# Altium footprint library PcbLib.PcbLib: 15 footprints
Each footprint in its own frame and in the unit in brackets; x right, y up, seen from the top. Pads: shape width x height; smd on the part's side, far side on the other; paste and mask are expansions set on the pad; w line width, h text height; cw(c..) or ccw(c..) is an arc to the next point about the centre after c.
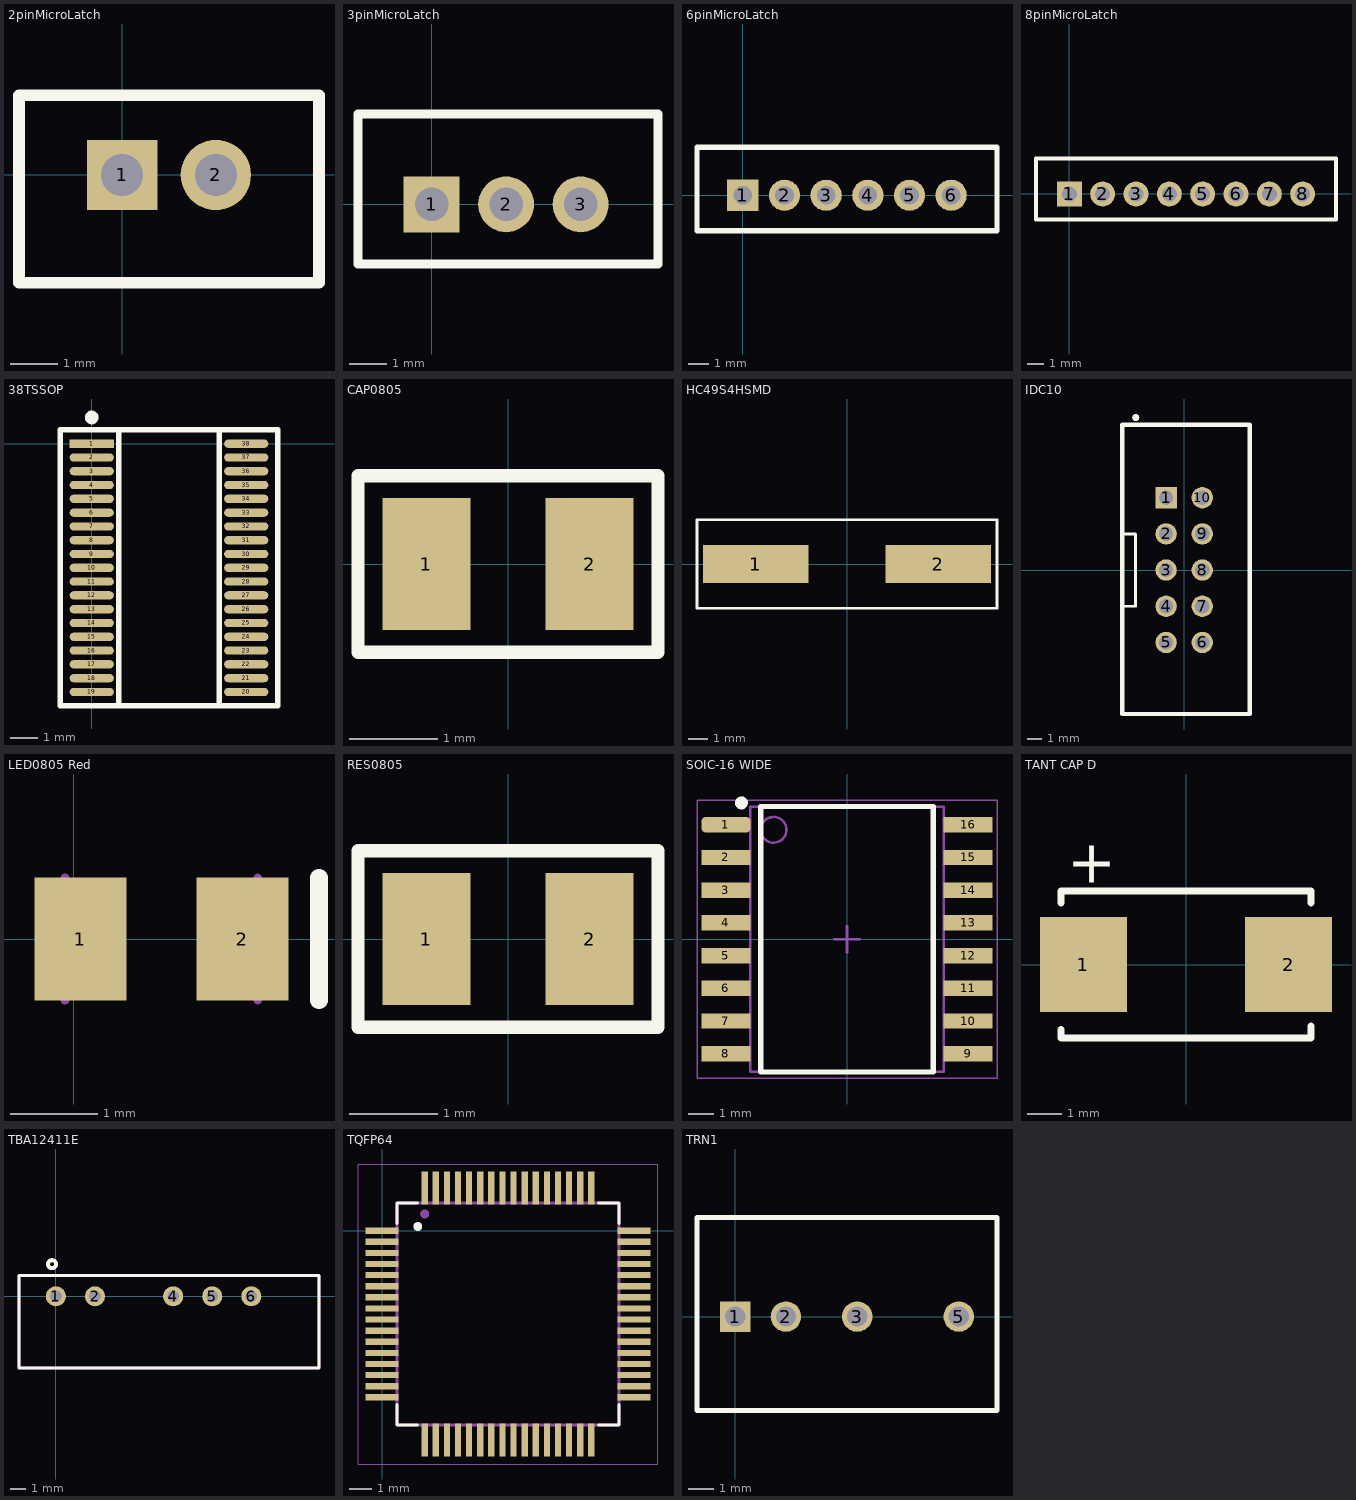
[diagram p0: the footprints below, top view; thin cyan lines are the x and y axes]

## 2pinMicroLatch [mm] "Molex 2mm pitch wire to board"
pads (2):
  rect 1.5x1.5 hole 0.9: 1(0,0)
  round 1.5 hole 0.9: 2(2,0)
Top Overlay:
  lines w0.254: -2.2,-2.3 4.2,-2.3 4.2,1.7 -2.2,1.7 -2.2,-2.3
3D body "532530270.stp": height 5.55, standoff -3.45, extent -2,-2.15 4,1.5

## 3pinMicroLatch [mm] "Molex 2mm pitch wire to board"
pads (3):
  rect 1.5x1.5 hole 0.9: 1(0,0)
  round 1.5 hole 0.9: 2(2,0) 3(4,0)
Top Overlay:
  lines w0.254: -1.975,-1.6 6.075,-1.6 6.075,2.425 -1.975,2.425 -1.975,-1.6
3D body "Micro-Lacth_03_PCB_Header_+_Housing.STEP": height 5.55, standoff -2.45, extent -2.025,-1.525 5.975,2.125

## 6pinMicroLatch [mm] "Molex 2mm pitch wire to board"
pads (6):
  rect 1.5x1.5 hole 0.9: 1(0,0)
  round 1.5 hole 0.9: 2(2,0) 3(4,0) 4(6,0) 5(8,0) 6(10,0)
Top Overlay:
  lines w0.254: -2.2,-1.7 -2.2,2.3 12.2,2.3 12.2,-1.7 -2.2,-1.7
3D body "532530670.stp": height 5.55, standoff -3.45, extent -2,-1.55 12,2.1

## 8pinMicroLatch [mm] "Molex 2mm pitch wire to board"
pads (8):
  rect 1.5x1.5 hole 0.9: 1(0,0)
  round 1.5 hole 0.9: 2(2,0) 3(4,0) 4(6,0) 5(8,0) 6(10,0) 7(12,0) 8(14,0)
Top Overlay:
  lines w0.254: -2,-1.525 -2,2.125 16,2.125 16,-1.525 -2,-1.525
3D body "532530870.STEP": height 3.08, standoff -5.92, extent -2,-1.525 16,2.125

## 38TSSOP [mm]
pads (38):
  rect 1.6x0.3 smd: 1(0,0)
  oval 1.6x0.3 smd: 2(0,-0.5) 3(0,-1) 4(0,-1.5) 5(0,-2) 6(0,-2.5) 7(0,-3) 8(0,-3.5) 9(0,-4) 10(0,-4.5) 11(0,-5) 12(0,-5.5) 13(0,-6) 14(0,-6.5) 15(0,-7) 16(0,-7.5) 17(0,-8) 18(0,-8.5) 19(0,-9) 20(5.6,-9) 21(5.6,-8.5) 22(5.6,-8) 23(5.6,-7.5) 24(5.6,-7) 25(5.6,-6.5) 26(5.6,-6) 27(5.6,-5.5) 28(5.6,-5) 29(5.6,-4.5) 30(5.6,-4) 31(5.6,-3.5) 32(5.6,-3) 33(5.6,-2.5) 34(5.6,-2) 35(5.6,-1.5) 36(5.6,-1) 37(5.6,-0.5) 38(5.6,0)
Top Overlay:
  circle w0.25: c0,0.95 r0.125
  lines w0.2: 0.985,-9.25 0.985,0.25 ; 4.615,-9.25 4.615,0.25 ; 0.985,-9.5 0.985,0.5 ; 0.985,-9.5 4.615,-9.5 ; 0.985,-9.5 0.985,0.5 ; 0.985,-9.5 -1.15,-9.5 -1.15,0.5 0.985,0.5 ; 0.985,0.5 4.615,0.5 ; 4.615,-9.5 6.75,-9.5 6.75,0.5 4.615,0.5 ; 4.615,-9.5 4.615,0.5 ; 4.615,-9.5 4.615,0.5
3D body "TSSOP-38 0.50p 4.4mm Pad.step": height 1, standoff 0, extent -0.3,-9.35 6,0.35

## CAP0805 [mm] "Chip Capacitor, 2-Leads, Body 2,00x1,20mm, IPC Medium Density"
height 0.6
pads (2):
  rect 1x1.5 smd: 1(-0.925,0) 2(0.925,0)
Top Overlay:
  lines w0.15: -1.7,-1 1.7,-1 1.7,1 -1.7,1 -1.7,-1
3D body "Capacitor 0805.STEP": height 0.6, standoff 0, extent -1.1,-0.7 1.1,0.7

## HC49S4HSMD [mm] "HC49S4HSMD"
height 0.6
pads (2):
  rect 5.5x2 smd: 1(-4.75,0) 2(4.75,0)
Top Overlay:
  lines w0.15: -7.8,-2.3 -7.8,2.3 7.8,2.3 7.8,-2.3 -7.8,-2.3
3D body "crystal_hc-49-smd.step": height 4.2, standoff 0, extent -5.802,-2.35 5.807,2.35

## IDC10 [mm]
pads (11):
  rect 1.5x1.5 hole 1: 1(-1.27,5.08)
  round 1.5 hole 1: 2(-1.27,2.54) 3(-1.27,0) 4(-1.27,-2.54) 5(-1.27,-5.08) 6(1.27,-5.08) 7(1.27,-2.54) 8(1.27,0) 9(1.27,2.54) 10(1.27,5.08)
  round 0.5 on Top Overlay: ""(-3.4,10.7)
Top Overlay:
  lines w0.2: -4.35,-2.54 -3.41,-2.54 -3.41,2.54 -4.35,2.54
  lines w0.3: -4.35,-10.1 4.6,-10.1 4.6,10.2 -4.35,10.2 -4.35,-10.1
3D body "IDC-10MS.STEP": height 9.3, standoff -3.1, extent -4.25,-10.15 4.55,10.15

## LED0805 Red [mm] "Chip Led, 2-Leads, Body 2,00x1,20mm, IPC Medium Density"
height 0.6
pads (2):
  rect 1.05x1.4 smd: 1(0.075,0) 2(1.925,0)
Top Overlay:
  lines w0.2: 2.8,-0.7 2.8,0.7
Mechanical 13:
  lines w0.1: -0.1,-0.7 -0.1,0.7 ; 2.1,-0.7 2.1,0.7
3D body "LED SMD 0805 (Red).STEP": height 0.8, standoff 0, extent -0.025,-0.625 1.975,0.625

## RES0805 [mm] "Chip Resistor, 2-Leads, Body 2,00x1,20mm, IPC Medium Density"
height 0.6
pads (2):
  rect 1x1.5 smd: 1(-0.925,0) 2(0.925,0)
Top Overlay:
  lines w0.15: -1.7,-1 -1.7,1 1.7,1 1.7,-1 -1.7,-1
3D body "Resistor 0805.STEP": height 0.6, standoff 0, extent -1.1,-0.7 1.1,0.7

## SOIC-16 WIDE [mm] "SOIC, 16-Leads, Body 10.30x7.50mm, Pitch 1.27mm, IPC Medium Density"
height 2.65
pads (16):
  rrect50% 1.9x0.6 smd: 1(-4.7,4.445)
  rect 1.9x0.6 smd: 2(-4.7,3.175) 3(-4.7,1.905) 4(-4.7,0.635) 5(-4.7,-0.635) 6(-4.7,-1.905) 7(-4.7,-3.175) 8(-4.7,-4.445) 9(4.7,-4.445) 10(4.7,-3.175) 11(4.7,-1.905) 12(4.7,-0.635) 13(4.7,0.635) 14(4.7,1.905) 15(4.7,3.175) 16(4.7,4.445)
Top Overlay:
  circle w0.25: c-4.1,5.295 r0.125
  lines w0.2: -3.35,-5.15 3.35,-5.15 3.35,5.15 -3.35,5.15 -3.35,-5.15 ; -3.35,4.5 -3.35,4.5
Mechanical 13:
  circle w0.1: c-2.85,4.25 r0.5
  lines w0.1: -3.75,-5.15 3.75,-5.15 3.75,5.15 -3.75,5.15 -3.75,-5.15
Mechanical 15:
  lines w0.05: -5.825,-5.4 5.825,-5.4 5.825,5.4 -5.825,5.4 -5.825,-5.4
  lines w0.1: -0.5,0 0.5,0 ; 0,-0.5 0,0.5
3D body "SOIC-16 SiLabs Wide.STEP": height 2.65, standoff 0, extent -5.164,-5.15 5.164,5.15

## TANT CAP D [mm] "Molded Capacitor, 2-Leads, Body 6,00x3,20mm, IPC Medium Density"
height 2.5
pads (2):
  rect 2.55x2.77 smd: 1(-3,0) 2(3,0)
Top Overlay:
  lines w0.2: -3.65,-1.9 -3.65,-2.15 3.65,-2.15 3.65,-1.8 ; -3.65,1.8 -3.65,2.15 3.65,2.15 3.65,1.8
  text "+" at -3.471,2.396 h1.25
3D body "D 7343-31.step": height 2.81, standoff 0, extent -3.65,-2.15 3.65,2.15

## TBA12411E [mm]
pads (5):
  round 1.303 hole 0.76: 1(0,0) 2(2.54,0) 4(7.62,0) 5(10.16,0) 6(12.7,0)
Top Overlay:
  circle w0.254: c-0.252,2.087 r0.262
  lines w0.2: -2.4,-4.65 -2.4,1.35 17.1,1.35 17.1,-4.65 -2.4,-4.65
Mechanical 13:
  lines w0.2: -2.4,-4.65 -2.4,1.35 17.1,1.35 17.1,-4.65 -2.4,-4.65
3D body "TBA_1-2423E.stp": height 9.91, standoff -3.14, extent -2.404,-4.653 17.096,1.347

## TQFP64 [mm]
pads (64):
  rect 1.47x0.28 smd: 1(0,0) 2(0,-0.5) 3(0,-1) 4(0,-1.5) 5(0,-2) 6(0,-2.5) 7(0,-3) 8(0,-3.5) 9(0,-4) 10(0,-4.5) 11(0,-5) 12(0,-5.5) 13(0,-6) 14(0,-6.5) 15(0,-7) 16(0,-7.5) 33(11.34,-7.5) 34(11.34,-7) 35(11.34,-6.5) 36(11.34,-6) 37(11.34,-5.5) 38(11.34,-5) 39(11.34,-4.5) 40(11.34,-4) 41(11.34,-3.5) 42(11.34,-3) 43(11.34,-2.5) 44(11.34,-2) 45(11.34,-1.5) 46(11.34,-1) 47(11.34,-0.5) 48(11.34,0)
  rect 0.28x1.47 smd: 17(1.92,-9.42) 18(2.42,-9.42) 19(2.92,-9.42) 20(3.42,-9.42) 21(3.92,-9.42) 22(4.42,-9.42) 23(4.92,-9.42) 24(5.42,-9.42) 25(5.92,-9.42) 26(6.42,-9.42) 27(6.92,-9.42) 28(7.42,-9.42) 29(7.92,-9.42) 30(8.42,-9.42) 31(8.92,-9.42) 32(9.42,-9.42) 49(9.42,1.92) 50(8.92,1.92) 51(8.42,1.92) 52(7.92,1.92) 53(7.42,1.92) 54(6.92,1.92) 55(6.42,1.92) 56(5.92,1.92) 57(5.42,1.92) 58(4.92,1.92) 59(4.42,1.92) 60(3.92,1.92) 61(3.42,1.92) 62(2.92,1.92) 63(2.42,1.92) 64(1.92,1.92)
Top Overlay:
  circle w0.2: c1.606,0.187 r0.1
  lines w0.127: 0.67,-7.82 0.67,-8.75 1.6,-8.75 ; 0.67,0.32 0.67,1.25 1.6,1.25 ; 9.74,-8.75 10.67,-8.75 10.67,-7.82 ; 9.74,1.25 10.67,1.25 10.67,0.32
Mechanical 13:
  circle w0.2: c1.92,0.75 r0.1
  lines w0.127: 0.67,-8.75 10.67,-8.75 10.67,1.25 0.67,1.25 0.67,-8.75
Mechanical 15:
  lines w0.05: -1.08,-10.5 12.42,-10.5 12.42,3 -1.08,3 -1.08,-10.5
3D body "step_temp.STEP": height 1.18, standoff -0.02, extent -0.33,-9.75 11.67,2.25

## TRN1 [mm] "DC/DC, 1W"
height 11
pads (4):
  rect 1.2x1.2 hole 0.8: 1(0,0)
  round 1.2 hole 0.8: 2(2,0) 3(4.8,0) 5(8.8,0)
Top Overlay:
  lines w0.2: -1.5,-3.7 -1.5,3.9 10.3,3.9 10.3,-3.7 -1.5,-3.7
3D body "trn1_single_3d_drawing.stp": height 11, standoff -4.1, extent -1.55,-3.75 10.35,3.95